# EAGLE library part DS1339B (library sharkdunio)
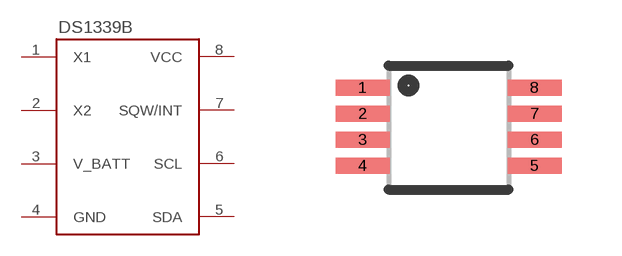
[diagram p0: symbol with the pads of 8U-SOP; footprint 8U-SOP]

Designator prefix -

## DS1339BDS1339B  [8U-SOP]
1  X1
2  X2
3  V_BATT
4  GND
5  SDA
6  SCL
7  SQW/INT
8  VCC

## Footprint 8U-SOP (pad centres in mm)
smd 1.35 x 0.4: 1 -2.15,0.65; 2 -2.15,0; 3 -2.15,-0.65; 4 -2.15,-1.3; 5 2.15,-1.3; 6 2.15,-0.65; 7 2.15,0; 8 2.15,0.65